# Altium schematic symbol library fairchild-mosfet.SchLib: 6 symbols
Pins are listed as number, name and electrical type; pins without a type are passive.

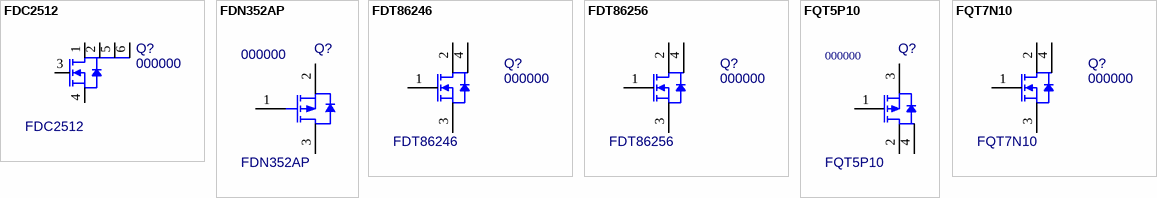
[diagram p0: symbols FDC2512 to FQT7N10]

## FDC2512
designator Q?, comment 000000  value FDC2512
N-Channel MOSFET 150V 1.4A; MF: Fairchild; PN: 000000; Package: SOT23-6; ExtraInfo: *; MF PN: FDC2512; Price: 0.33112; Digi-Key PN: FDC2512CT-ND
footprint SOT-23-6 (6-Lead Plastic Small Outline Transistor - Medium Density)
simulation model SI3434DV (March 21, 2005)
pins: 1 D, 2 D, 3 G, 4 S, 5 D, 6 D

## FDN352AP
designator Q?, comment 000000  value FDN352AP
P-Channel MOSFET 30V 1.3A SOT-23; PN: 000000; Package: SOT-23; ExtraInfo: *
footprint SOT-23 (SOT23, 3-Leads, Body 3.0x2.8mm (max), Pitch 0.95mm, IPC High Density)
pins: 1 G, 2 S, 3 D

## FDT86246
designator Q?, comment 000000  value FDT86246
N-Channel MOSFET 150V 2A 236mOhm; Manufacturer: Fairchild; PN: 000000; Package: SOT-223; ExtraInfo: *
footprint SOT223-M (SOT223, 4-Leads, Body 6.7x7.3mm (max), Pitch 2.30mm, IPC Medium Density)
pins: 1 G, 2 D, 3 S, 4 D

## FDT86256
designator Q?, comment 000000  value FDT86256
N-Channel MOSFET 150V 1.2A 845mOhm; Manufacturer: Fairchild; PN: 000000; Package: SOT-223; ExtraInfo: *
footprint SOT223-M (SOT223, 4-Leads, Body 6.7x7.3mm (max), Pitch 2.30mm, IPC Medium Density)
pins: 1 G, 2 D, 3 S, 4 D

## FQT5P10
designator Q?, comment 000000  value FQT5P10
P-Channel MOSFET 100V -1A SOT223; Package: SOT-223; PN: 000000; ExtraInfo: *
footprint SOT223-M (SOT223, 4-Leads, Body 6.7x7.3mm (max), Pitch 2.30mm, IPC Medium Density)
simulation model NTF5P03T3
pins: 1 G, 2 D, 3 S, 4 D

## FQT7N10
designator Q?, comment 000000  value FQT7N10
N-Channel MOSFET 100V 1.7A SOT-223; Manufacturer: Fairchild; PN: 000000; Package: SOT-223; ExtraInfo: *
footprint SOT223-M (SOT223, 4-Leads, Body 6.7x7.3mm (max), Pitch 2.30mm, IPC Medium Density)
simulation model FQT7N10 (Power Discrete MOSFET Electrical Circuit Model)
pins: 1 G, 2 D, 3 S, 4 D